# Altium footprint library OL_1208RA_3020RA.PcbLib: 1 footprints
Each footprint in its own frame and in the unit in brackets; x right, y up, seen from the top. Pads: shape width x height; smd on the part's side, far side on the other; paste and mask are expansions set on the pad; w line width, h text height; cw(c..) or ccw(c..) is an arc to the next point about the centre after c.
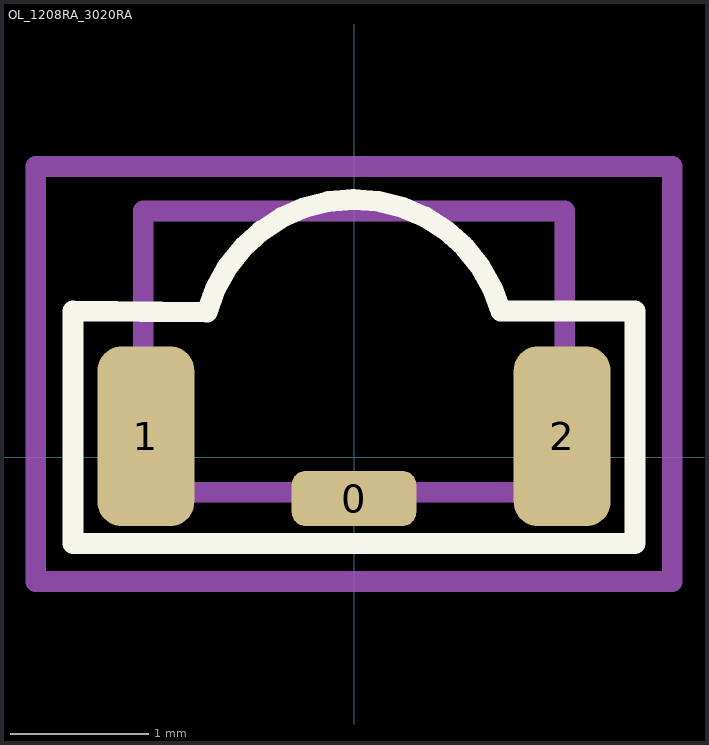
[diagram p0: the footprint, top view; thin cyan lines are the x and y axes]

## OL_1208RA_3020RA [mm]
pads (3):
  rrect50% 0.9x0.4 smd mask+0.05: 0(0,-0.3)
  rrect50% 0.7x1.3 smd mask+0.05: 1(-1.504,0.15) 2(1.504,0.15)
Top Overlay:
  lines w0.15: -2.032,-0.625 -2.032,1.056 -1.063,1.046 cw(c0,0.762) 1.06,1.056 2.032,1.056 2.032,1.046 2.032,-0.625
  lines w0.152: -2.032,-0.625 2.032,-0.625
Assembly Top:
  lines w0.15: -1.524,-0.254 -1.524,1.778 1.524,1.778 1.524,-0.254 -1.524,-0.254
Courtyard Top:
  lines w0.15: -2.3,-0.9 2.3,-0.9 2.3,2.1 -2.3,2.1 -2.3,-0.9
3D body "User Library-LTST-S326KGJ.step": height 1.06, standoff 0.04, extent -1.5,-0.274 1.5,1.746